# EAGLE library part AG5200 (library Heep)
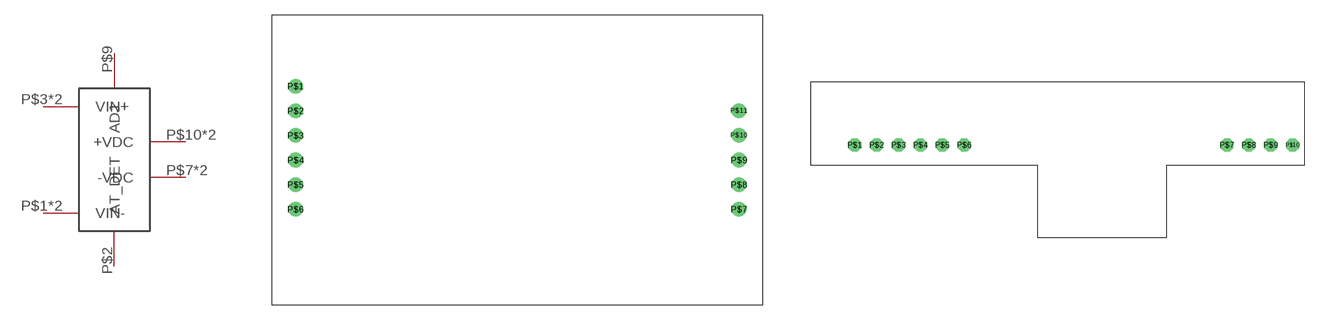
[diagram p5: symbol with the pads of AG5200; footprints AG5200, AG5300]

Designator prefix -

## AG5200AG5200  [AG5200]
P$1  VIN-
P$2  AT_DET
P$3  VIN+
P$4  VIN+
P$6  VIN-
P$7  -VDC
P$8  -VDC
P$9  ADJ
P$10  +VDC
P$11  +VDC

## AG5200AG5300  [AG5300]
P$1  VIN+
P$2  VIN-
P$3  AT_DET
P$7  -VDC
P$8  +VDC
P$9  ADJ
P$10  -VDC

## Footprint AG5200 (pad centres in mm)
drill 1: P$1 2.44,-7.4; P$2 2.44,-9.94; P$3 2.44,-12.48; P$4 2.44,-15.02; P$5 2.44,-17.56; P$6 2.44,-20.1; P$7 48.16,-20.1; P$8 48.16,-17.56; P$9 48.16,-15.02; P$10 48.16,-12.48; P$11 48.16,-9.94

## Footprint AG5300 (pad centres in mm)
drill 1 octagon: P$1 5.11,2.3; P$2 7.65,2.3; P$3 10.19,2.3; P$4 12.73,2.3; P$5 15.27,2.3; P$6 17.81,2.3; P$7 48.29,2.3; P$8 50.83,2.3; P$9 53.37,2.3; P$10 55.91,2.3